# EAGLE library part HEADER-1X12 (library clock)
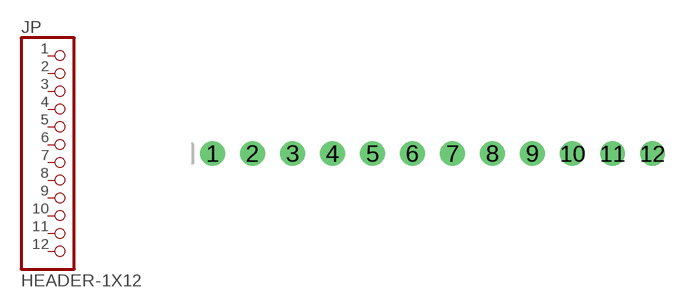
[diagram p5: symbol with the pads of 1X12_ROUND_MIN; footprint 1X12_ROUND_MIN]

Designator prefix JP

## HEADER-1X12_MIN  [1X12_ROUND_MIN]
1  1  pas
2  2  pas
3  3  pas
4  4  pas
5  5  pas
6  6  pas
7  7  pas
8  8  pas
9  9  pas
10  10  pas
11  11  pas
12  12  pas

## Footprint 1X12_ROUND_MIN (pad centres in mm)
drill 0.9 pad 1.575: 1 -13.97,0; 2 -11.43,0; 3 -8.89,0; 4 -6.35,0; 5 -3.81,0; 6 -1.27,0; 7 1.27,0; 8 3.81,0; 9 6.35,0; 10 8.89,0; 11 11.43,0; 12 13.97,0